# Altium schematic symbol library Mosfet.SchLib: 2 symbols
Pins are listed as number, name and electrical type; pins without a type are passive.

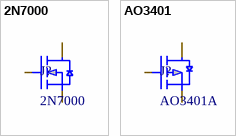
[diagram p0: symbols 2N7000 to AO3401]

## 2N7000
designator J?
60V 200mA 400mW 5Ω@10V 3V@1mA 1 N-Channel TO-92-3L MOSFETs ROHS; Manufacturer: onsemi; Mfr. Part #: 2N7000; LCSC Part #: C232838; Package: TO-92-3L; Current - Continuous Drain(Id): 200mA; Drain to Source Voltage: 60V; Link: https://www.lcsc.com/product-detail/C232838.html?s_z=n_2n7000; Gate Threshold Voltage (Vgs(th)): 3V@1mA; RDS(on): 5Ω@10V; Type: N-Channel
footprint 2N7000
pins: 1 S, 2 G, 3 D

## AO3401
designator J?, comment AO3401A
30V 4A 900mV@250uA 1 P-Channel SOT-23 MOSFETs ROHS; Manufacturer: AOS; Mfr. Part #: AO3401A; LCSC Part #: C15127; Package: SOT-23; Current - Continuous Drain(Id): 4A; Drain to Source Voltage: 30V; Link: https://www.lcsc.com/product-detail/C15127.html?s_z=n_AO3401
footprint AO3401A
pins: D, G, S